# Altium integrated library Connector.IntLib: 29 symbols
Pins are listed as number, name and electrical type; pins without a type are passive.

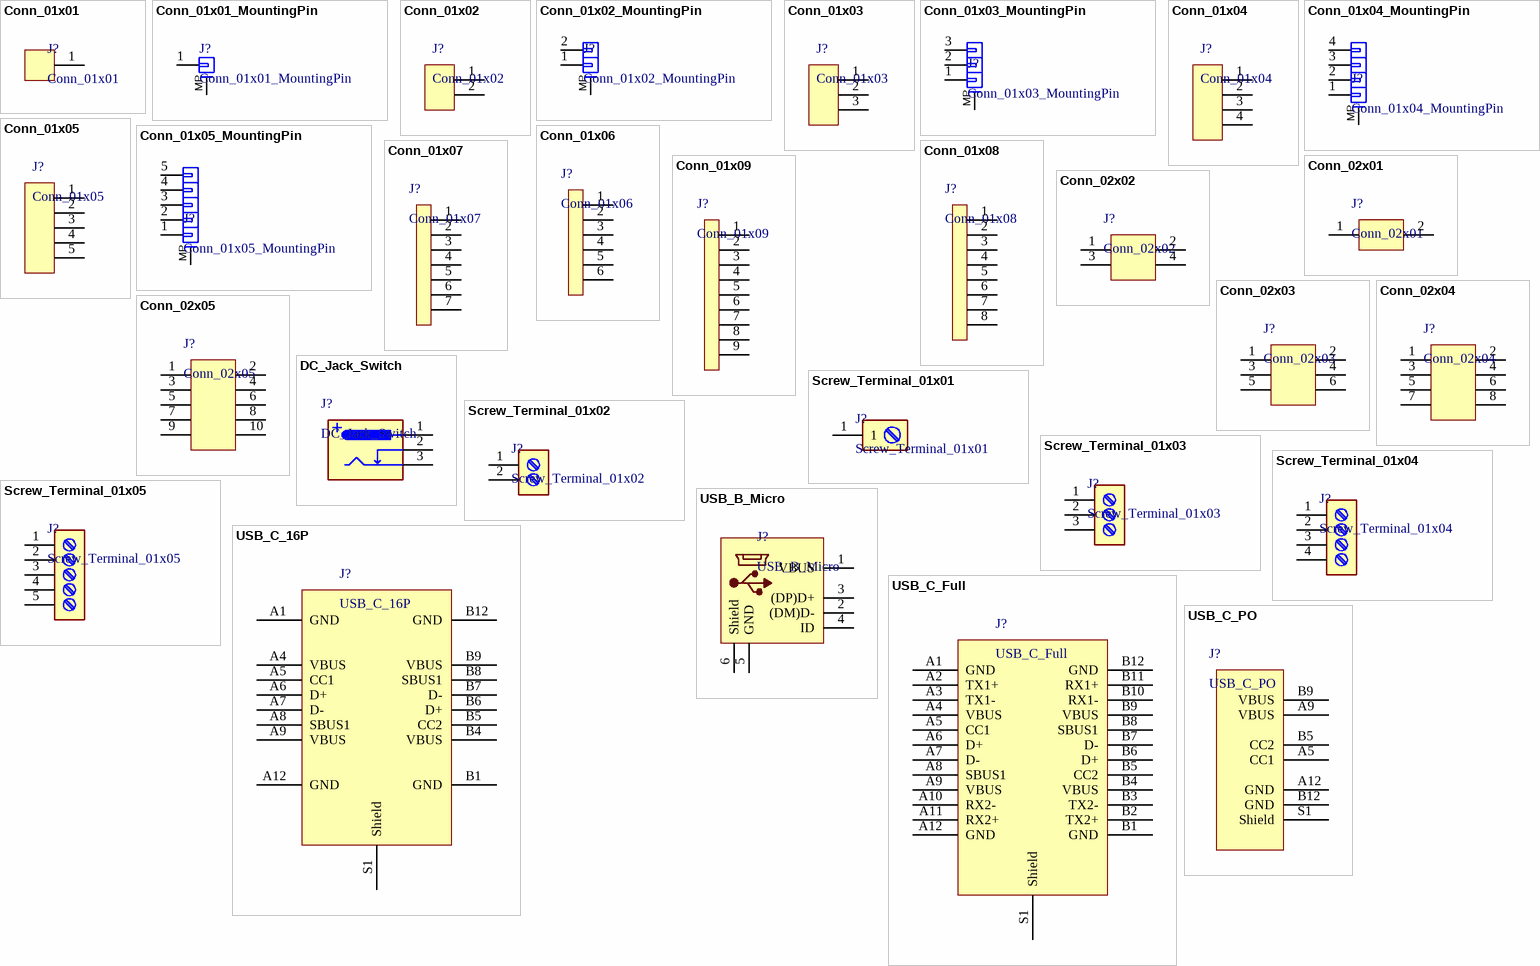
[diagram p0: symbols Conn_01x01 to USB_C_PO]

## Conn_01x01
designator J?
footprint PinHeader_1x01_P2.54mm_Vertical
footprint PinStampDual_1x01_P1.27mm
footprint PinStamp_1x01_P1.27mm
pins: 1

## Conn_01x01_MountingPin
designator J?
pins: 1, 2
text: MP

## Conn_01x02
designator J?
footprint PinHeader_1x02_P2.54mm_Vertical
pins: 1, 2

## Conn_01x02_MountingPin
designator J?
pins: 1, 2, 2
text: MP

## Conn_01x03
designator J?
footprint PinHeader_1x03_P2.54mm_Vertical
pins: 1, 2, 3

## Conn_01x03_MountingPin
designator J?
pins: 1, 2, 2, 3
text: MP

## Conn_01x04
designator J?
footprint PinHeader_1x04_P2.54mm_Vertical
pins: 1, 2, 3, 4

## Conn_01x04_MountingPin
designator J?
pins: 1, 2, 2, 3, 4
text: MP

## Conn_01x05
designator J?
footprint PinHeader_1x05_P2.54mm_Vertical
pins: 1, 2, 3, 4, 5

## Conn_01x05_MountingPin
designator J?
pins: 1, 2, 2, 3, 4, 5
text: MP

## Conn_01x06
designator J?
footprint PinHeader_1x06_P2.54mm_Vertical
pins: 1, 2, 3, 4, 5, 6

## Conn_01x07
designator J?
footprint PinHeader_1x07_P2.54mm_Vertical
footprint PinSocket_1x07_P2.54mm_Vertical
pins: 1, 2, 3, 4, 5, 6, 7

## Conn_01x08
designator J?
footprint PinHeader_1x08_P2.54mm_Vertical
pins: 1, 2, 3, 4, 5, 6, 7, 8

## Conn_01x09
designator J?
footprint PinStamp_1x09_P1.27mm
footprint PinStampDual_1x09_P1.27mm
footprint PinHeader_1x09_P2.54mm_Vertical
pins: 1, 2, 3, 4, 5, 6, 7, 8, 9

## Conn_02x01
designator J?
footprint PinHeader_2x01_P2.54mm_Vertical
pins: 1, 2

## Conn_02x02
designator J?
footprint PinHeader_2x02_P2.54mm_Vertical
pins: 1, 2, 3, 4

## Conn_02x03
designator J?
footprint PinHeader_2x03_P2.54mm_Vertical
pins: 1, 2, 3, 4, 5, 6

## Conn_02x04
designator J?
footprint PinHeader_2x04_P2.54mm_Vertical
pins: 1, 2, 3, 4, 5, 6, 7, 8

## Conn_02x05
designator J?
footprint PinHeader_2x05_P2.54mm_Vertical
pins: 1, 2, 3, 4, 5, 6, 7, 8, 9, 10

## DC_Jack_Switch
designator J?
DC Barrel Jack with an internal switch
footprint DC-005-2.1mm
pins: 1, 2, 3

## Screw_Terminal_01x01
designator J?
Generic screw terminal, single row
pins: 1

## Screw_Terminal_01x02
designator J?
Generic screw terminal, single row
footprint MKDSN_1x02_P5.08mm
footprint MKDS5_1x02_P9.52mm
pins: 1, 2

## Screw_Terminal_01x03
designator J?
Generic screw terminal, single row
footprint MKDSN_1x03_P5.08mm
pins: 1, 2, 3

## Screw_Terminal_01x04
designator J?
Generic screw terminal, single row
footprint MKDSN_1x04_P5.08mm
pins: 1, 2, 3, 4

## Screw_Terminal_01x05
designator J?
Generic screw terminal, single row
pins: 1, 2, 3, 4, 5

## USB_B_Micro
designator J?
USB Micro Type B connector
footprint USB_Micro-B_SMT_With_Column
pins: 1 VBUS, 2 (DM)D-, 3 (DP)D+, 4 ID, 5 GND, 6 Shield

## USB_C_16P
designator J?
USB_C_16P USB 2.0
footprint USB_C_Receptacle_XUNPU_TYPEC-304-BCP16
pins: A1 GND, A4 VBUS, A5 CC1, A6 D+, A7 D-, A8 SBUS1, A9 VBUS, A12 GND, B1 GND, B4 VBUS, B5 CC2, B6 D+, B7 D-, B8 SBUS1, B9 VBUS, B12 GND, S1 Shield

## USB_C_Full
designator J?
USB_C_Full 24Pin
pins: A1 GND, A2 TX1+, A3 TX1-, A4 VBUS, A5 CC1, A6 D+, A7 D-, A8 SBUS1, A9 VBUS, A10 RX2-, A11 RX2+, A12 GND, B1 GND, B2 TX2+, B3 TX2-, B4 VBUS, B5 CC2, B6 D+, B7 D-, B8 SBUS1, B9 VBUS, B10 RX1-, B11 RX1+, B12 GND, S1 Shield

## USB_C_PO
designator J?
USB_C_PO  Power Only
footprint USB_C_PowerOnly_XKB_U262-061N-4BVC10
pins: A5 CC1, A9 VBUS, A12 GND, B5 CC2, B9 VBUS, B12 GND, S1 Shield